# Altium footprint library myComponents.PcbLib: 43 footprints (part 2 of 3)
Each footprint in its own frame and in the unit in brackets; x right, y up, seen from the top. Pads: shape width x height; smd on the part's side, far side on the other; paste and mask are expansions set on the pad; w line width, h text height; cw(c..) or ccw(c..) is an arc to the next point about the centre after c.
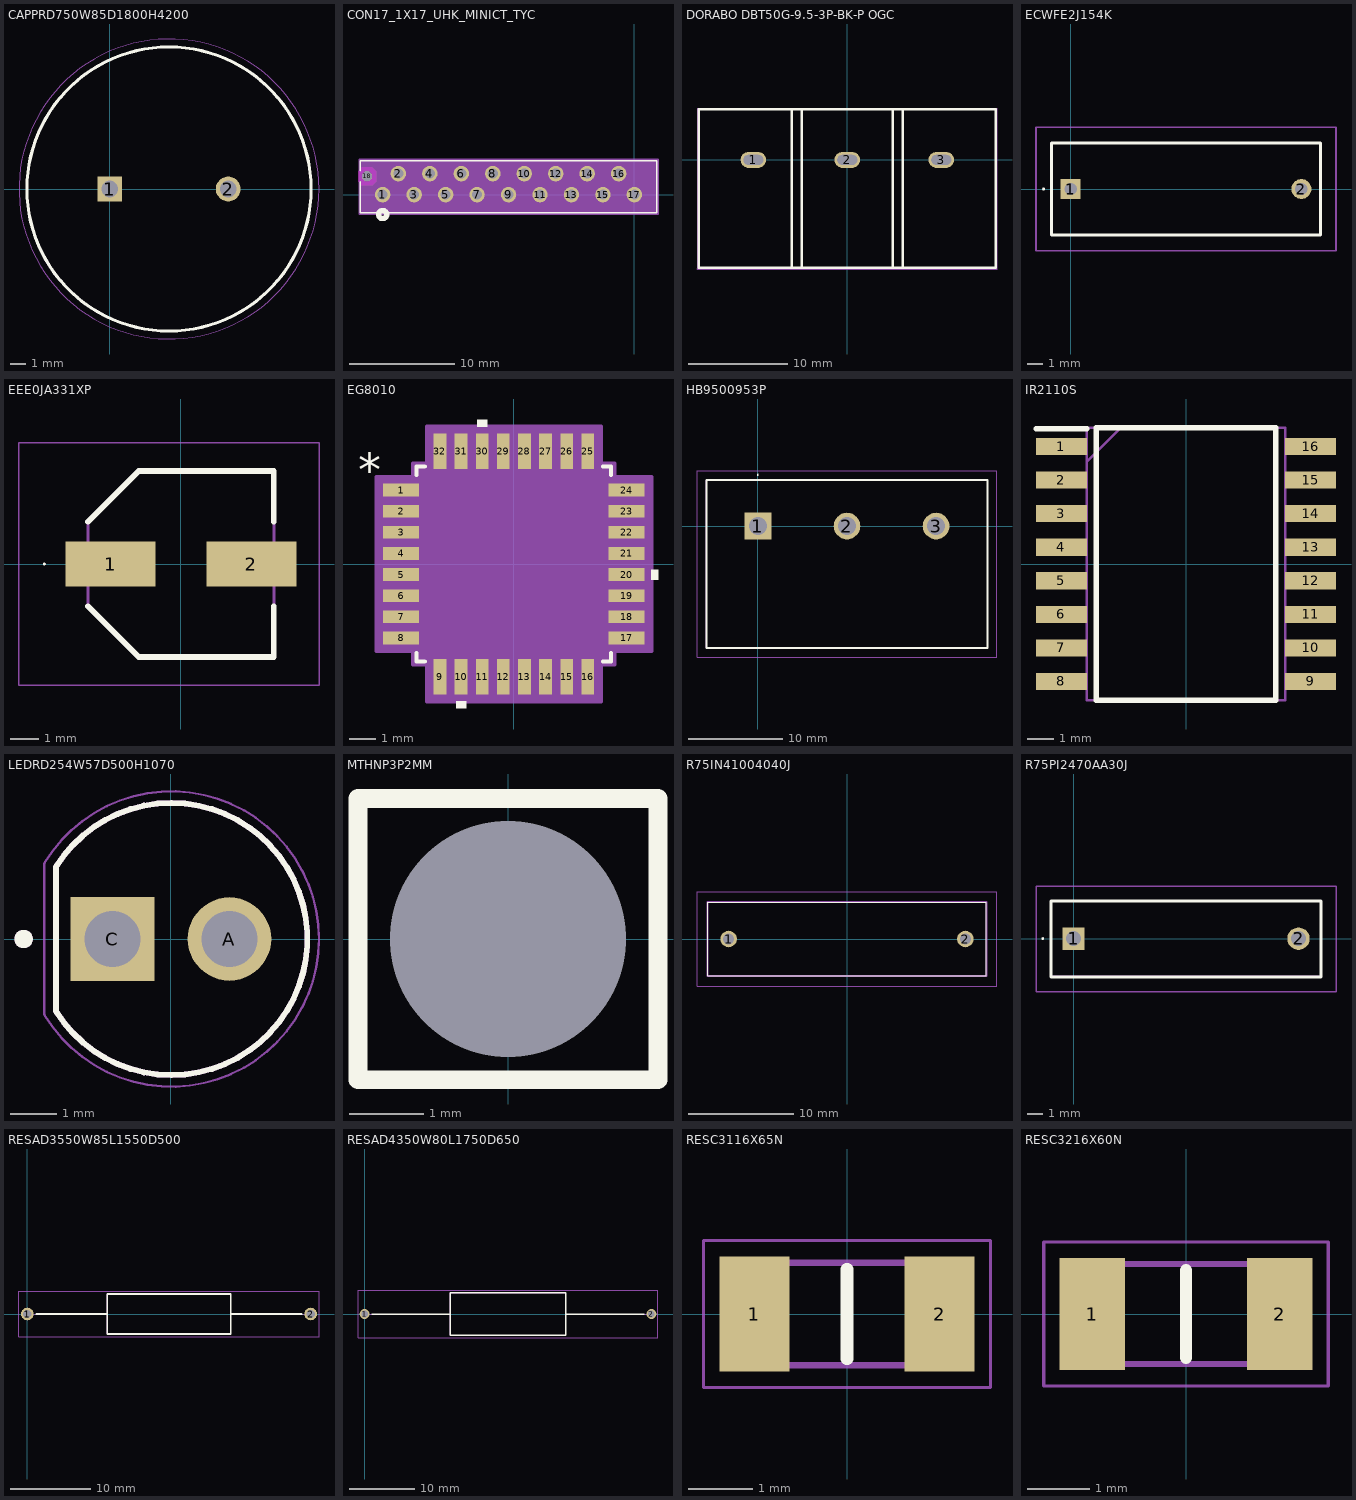
[diagram p1: the footprints below, top view; thin cyan lines are the x and y axes]

## CAPPRD750W85D1800H4200 [mm]
pads (2):
  rect 1.575x1.575 hole 1.05: 1(0,0)
  round 1.575 hole 1.05: 2(7.5,0)
Top Overlay:
  circle w0.2: c3.75,0 r9
Mechanical 13:
  circle w0.1: c3.75,0 r9
Mechanical 15:
  circle w0.05: c3.75,0 r9.5
3D body "EEU-FC1V392.stp": height 42, standoff -10, extent -5.479,-9.245 13,9.245

## CON17_1X17_UHK_MINICT_TYC [mil]
pads (18):
  round 58 hole 38 paste-99999 mask-29: 1(-944.88,0) 2(-885.83,78.74) 3(-826.77,0) 4(-767.72,78.74) 5(-708.66,0) 6(-649.61,78.74) 7(-590.55,0) 8(-531.5,78.74) 9(-472.44,0) 10(-413.39,78.74) 11(-354.33,0) 12(-295.28,78.74) 13(-236.22,0) 14(-177.17,78.74) 15(-118.11,0) 16(-59.06,78.74) 17(0,0)
  round 38 hole 38 unplated paste-99999 mask+0: 18(-1003.44,69)
Top Overlay:
  circle w20: c-944.88,-75 r15
  lines w6: -1028.44,48.87 -1028.44,-68 83.56,-68 83.56,127 -1028.44,127 -1028.44,89.13
  text ".Designator" at -609.94,-25 h50
Bottom Overlay:
  circle w20: c-944.88,-75 r15
Keep-Out Layer:
  region: -1022.44,35 -1037.44,50 -1037.44,88 -1022.44,103 -984.44,103 -969.44,88 -969.44,50 -984.44,35
Mechanical 13:
  circle w1: c-944.88,10 r7
  lines w1: -1023.44,-63 78.56,-63 78.56,122 -1023.44,122 -1023.44,-63
  text ".Designator" at -609.94,-25 h50
Mechanical 15:
  region: 88.56,132 -1033.44,132 -1033.44,-73 88.56,-73
  lines w6: -1033.44,-73 -1033.44,132 88.56,132 88.56,-73 -1033.44,-73

## DORABO DBT50G-9.5-3P-BK-P OGC [mm]
pads (3):
  oval 2.6x1.6 hole 1 slot 2 at 0 deg: 1(-9.5,0) 2(0,0) 3(9.5,0)
Top Overlay:
  lines w0.254: -15.01,-10.9 -15,5.1 15,5.1 15,-10.9 -15,-10.9 ; -5.633,-10.9 -5.633,5.1 ; -4.598,-10.9 -4.598,5.1 ; 4.572,-10.92 4.572,5.08 ; 5.607,-10.92 5.607,5.08
Mechanical 15:
  region: 9,0.4 10,0.4 10,-0.4 9,-0.4
  region: -0.5,0.4 0.5,0.4 0.5,-0.4 -0.5,-0.4
  region: -10,0.4 -9,0.4 -9,-0.4 -10,-0.4
  region: -15.077,-11.047 -15.077,-11.072 -15.112,-11.107 -15.162,-11.107 -15.197,-11.072 -15.197,-11.047 -15.197,-11.022 -15.162,-10.987 -15.112,-10.987 -15.077,-11.022
  lines w0.051: -15.137,-11.047 -15.137,5.227 15.127,5.227 15.127,-11.047 -15.137,-11.047

## ECWFE2J154K [mm]
pads (2):
  rect 1.3x1.3 hole 0.8: 1(0,0)
  round 1.3 hole 0.8: 2(15,0)
Top Overlay:
  lines w0.1: -1.8,0 cw(c-1.75,0) -1.7,0 cw(c-1.75,0) -1.8,0
  lines w0.2: -1.25,-3 -1.25,3 16.25,3 16.25,-3 -1.25,-3
Mechanical 13:
  lines w0.1: -1.25,-3 -1.25,3 16.25,3 16.25,-3 -1.25,-3
Mechanical 15:
  lines w0.1: -2.25,-4 -2.25,4 17.25,4 17.25,-4 -2.25,-4
3D body "ECW-FE2J154K.stp": height 12.1, standoff -5, extent -1.25,-3 16.25,3

## EEE0JA331XP [mm]
pads (2):
  rect 3.2x1.6 smd: 1(-2.5,0) 2(2.5,0)
Top Overlay:
  lines w0.05: -4.875,0 ccw(c-4.85,0) -4.825,0 ccw(c-4.85,0) -4.875,0
  lines w0.2: -3.3,-1.5 -1.5,-3.3 3.3,-3.3 3.3,-1.5 ; -3.3,1.5 -1.5,3.3 3.3,3.3 3.3,1.5
Mechanical 13:
  lines w0.1: -3.3,1.5 -1.5,3.3 ; -3.3,1.5 -3.3,-1.5 -1.5,-3.3 3.3,-3.3 3.3,3.3 -1.5,3.3 ; -3.3,1.5 -1.5,3.3
Mechanical 15:
  lines w0.05: -5.75,-4.3 4.9,-4.3 4.9,4.3 -5.75,4.3 -5.75,-4.3
3D body "EEE-1VA101XP.stp": height 7.7, standoff 0, extent -3.65,-3.3 3.65,3.3

## EG8010 [mm]
pads (32):
  rect 1.36x0.482 smd paste+0 mask+0: 1(-4.267,2.8) 2(-4.267,2) 3(-4.267,1.2) 4(-4.267,0.4) 5(-4.267,-0.4) 6(-4.267,-1.2) 7(-4.267,-2) 8(-4.267,-2.8) 17(4.267,-2.8) 18(4.267,-2) 19(4.267,-1.2) 20(4.267,-0.4) 21(4.267,0.4) 22(4.267,1.2) 23(4.267,2) 24(4.267,2.8)
  rect 0.482x1.36 smd paste+0 mask+0: 9(-2.8,-4.267) 10(-2,-4.267) 11(-1.2,-4.267) 12(-0.4,-4.267) 13(0.4,-4.267) 14(1.2,-4.267) 15(2,-4.267) 16(2.8,-4.267) 25(2.8,4.267) 26(2,4.267) 27(1.2,4.267) 28(0.4,4.267) 29(-0.4,4.267) 30(-1.2,4.267) 31(-2,4.267) 32(-2.8,4.267)
Top Overlay:
  region: -1.81,-5.201 -2.191,-5.201 -2.191,-5.455 -1.81,-5.455
  region: 5.201,-0.209 5.455,-0.209 5.455,-0.59 5.201,-0.59
  region: -1.01,5.201 -1.391,5.201 -1.391,5.455 -1.01,5.455
  lines w0.152: -3.683,-3.374 -3.683,-3.683 -3.374,-3.683 ; -3.683,3.374 -3.683,3.683 -3.374,3.683 ; 3.374,-3.683 3.683,-3.683 3.683,-3.374 ; 3.374,3.683 3.683,3.683 3.683,3.374
  text "*" at -5.9,2.946 h1.27
  text ".Designator" at -3.492,-0.635 h1.27
Mechanical 13:
  lines w0.025: -3.556,2.286 -2.286,3.556 ; -4.597,-3.016 -4.597,-2.584 -3.556,-2.584 -3.556,-3.016 -4.597,-3.016 ; -4.597,-2.216 -4.597,-1.784 -3.556,-1.784 -3.556,-2.216 -4.597,-2.216 ; -4.597,-1.416 -4.597,-0.984 -3.556,-0.984 -3.556,-1.416 -4.597,-1.416 ; -4.597,-0.616 -4.597,-0.184 -3.556,-0.184 -3.556,-0.616 -4.597,-0.616 ; -4.597,0.184 -4.597,0.616 -3.556,0.616 -3.556,0.184 -4.597,0.184 ; -4.597,0.984 -4.597,1.416 -3.556,1.416 -3.556,0.984 -4.597,0.984 ; -4.597,1.784 -4.597,2.216 -3.556,2.216 -3.556,1.784 -4.597,1.784 ; -4.597,2.584 -4.597,3.016 -3.556,3.016 -3.556,2.584 -4.597,2.584 ; -3.556,-3.556 -3.556,3.556 3.556,3.556 3.556,-3.556 -3.556,-3.556 ; -3.016,-4.597 -3.016,-3.556 -2.584,-3.556 -2.584,-4.597 -3.016,-4.597 ; -3.016,3.556 -2.584,3.556 -2.584,4.597 -3.016,4.597 -3.016,3.556 ; -2.216,-4.597 -2.216,-3.556 -1.784,-3.556 -1.784,-4.597 -2.216,-4.597 ; -2.216,3.556 -1.784,3.556 -1.784,4.597 -2.216,4.597 -2.216,3.556 ; -1.416,-4.597 -1.416,-3.556 -0.984,-3.556 -0.984,-4.597 -1.416,-4.597 ; -1.416,3.556 -0.984,3.556 -0.984,4.597 -1.416,4.597 -1.416,3.556 ; -0.616,-4.597 -0.616,-3.556 -0.184,-3.556 -0.184,-4.597 -0.616,-4.597 ; -0.616,3.556 -0.184,3.556 -0.184,4.597 -0.616,4.597 -0.616,3.556 ; 0.184,-4.597 0.184,-3.556 0.616,-3.556 0.616,-4.597 0.184,-4.597 ; 0.184,3.556 0.616,3.556 0.616,4.597 0.184,4.597 0.184,3.556 ; 0.984,-4.597 0.984,-3.556 1.416,-3.556 1.416,-4.597 0.984,-4.597 ; 0.984,3.556 1.416,3.556 1.416,4.597 0.984,4.597 0.984,3.556 ; 1.784,-4.597 1.784,-3.556 2.216,-3.556 2.216,-4.597 1.784,-4.597 ; 1.784,3.556 2.216,3.556 2.216,4.597 1.784,4.597 1.784,3.556 ; 2.584,-4.597 2.584,-3.556 3.016,-3.556 3.016,-4.597 2.584,-4.597 ; 2.584,3.556 3.016,3.556 3.016,4.597 2.584,4.597 2.584,3.556 ; 3.556,-3.016 3.556,-2.584 4.597,-2.584 4.597,-3.016 3.556,-3.016 ; 3.556,-2.216 3.556,-1.784 4.597,-1.784 4.597,-2.216 3.556,-2.216 ; 3.556,-1.416 3.556,-0.984 4.597,-0.984 4.597,-1.416 3.556,-1.416 ; 3.556,-0.616 3.556,-0.184 4.597,-0.184 4.597,-0.616 3.556,-0.616 ; 3.556,0.184 3.556,0.616 4.597,0.616 4.597,0.184 3.556,0.184 ; 3.556,0.984 3.556,1.416 4.597,1.416 4.597,0.984 3.556,0.984 ; 3.556,1.784 3.556,2.216 4.597,2.216 4.597,1.784 3.556,1.784 ; 3.556,2.584 3.556,3.016 4.597,3.016 4.597,2.584 3.556,2.584
  text ".Designator" at -3.492,-0.635 h1.27
  text "*" at -3.492,2.565 h1.27
Mechanical 15:
  region: -3.295,-3.81 -3.81,-3.81 -3.81,-3.295 -5.201,-3.295 -5.201,3.295 -3.81,3.295 -3.81,3.81 -3.295,3.81 -3.295,5.201 3.295,5.201 3.295,3.81 3.81,3.81 3.81,3.295 5.201,3.295 5.201,-3.295 3.81,-3.295 3.81,-3.81 3.295,-3.81 3.295,-5.201 -3.295,-5.201
  lines w0.152: -5.201,-3.295 -3.81,-3.295 -3.81,-3.81 -3.295,-3.81 -3.295,-5.201 3.295,-5.201 3.295,-3.81 3.81,-3.81 3.81,-3.295 5.201,-3.295 5.201,3.295 3.81,3.295 3.81,3.81 3.295,3.81 3.295,5.201 -3.295,5.201 -3.295,3.81 -3.81,3.81 -3.81,3.295 -5.201,3.295 -5.201,-3.295
3D body "LQFP32_EGM.step": height 1.6, standoff 0, extent -4.597,-4.597 4.597,4.597

## HB9500953P [mm]
pads (3):
  rect 2.85x2.85 hole 1.9: 1(0,0)
  round 2.85 hole 1.9: 2(9.5,0) 3(19,0)
Top Overlay:
  lines w0.1: 0,5.4 cw(c0,5.45) 0,5.5 cw(c0,5.45) 0,5.4
  lines w0.2: -5.5,-13 -5.5,4.9 24.5,4.9 24.5,-13 -5.5,-13
Mechanical 13:
  lines w0.1: -5.5,-13 -5.5,4.9 24.5,4.9 24.5,-13 -5.5,-13
Mechanical 15:
  lines w0.1: -6.5,-14 -6.5,5.9 25.5,5.9 25.5,-14 -6.5,-14
3D body "HB9500-9.5-3P.stp": height 15, standoff -5, extent -5.5,-13 24.5,4.9

## IR2110S [mm]
pads (16):
  rect 1.925x0.65 smd: 1(-4.712,4.445) 2(-4.712,3.175) 3(-4.712,1.905) 4(-4.712,0.635) 5(-4.712,-0.635) 6(-4.712,-1.905) 7(-4.712,-3.175) 8(-4.712,-4.445) 9(4.712,-4.445) 10(4.712,-3.175) 11(4.712,-1.905) 12(4.712,-0.635) 13(4.712,0.635) 14(4.712,1.905) 15(4.712,3.175) 16(4.712,4.445)
Top Overlay:
  lines w0.2: -5.675,5.12 -3.75,5.12 ; -3.4,-5.15 -3.4,5.15 3.4,5.15 3.4,-5.15 -3.4,-5.15
Mechanical 15:
  lines w0.1: -3.75,3.88 -2.48,5.15 ; -3.75,-5.15 -3.75,5.15 3.75,5.15 3.75,-5.15 -3.75,-5.15

## LEDRD254W57D500H1070 [mm]
height 10.7
pads (2):
  round 1.815 hole 1.21: A(1.27,0)
  rect 1.815x1.815 / inner round 1.815 / far side rect 1.815x1.815 hole 1.21: C(-1.27,0)
Top Overlay:
  circle w0.2: c-3.2,0 r0.1
  lines w0.127: -2.5,-1.566 ccw(c0.006,0) -2.5,1.566 -2.5,-1.566
Mechanical 13:
  circle w0.2: c-3.2,0 r0.1
  lines w0.127: -2.5,-1.566 ccw(c0.006,0) -2.5,1.566 -2.5,-1.566
Mechanical 15:
  lines w0.05: -2.75,-1.64 -2.75,1.64 ; -2.743,-1.652 ccw(c0.007,0) -2.743,1.652
3D body "step_temp.STEP": height 9.1, standoff -17.8, extent -2.6,-2.95 2.95,2.95

## MTHNP3P2MM [mm] "mountinh hole non plated 3.2mm"
pads (1):
  round 1 hole 3.2: ""(0,0)
Top Overlay:
  lines w0.254: -2.032,-1.905 -2.032,0.254 -2.032,1.905 2.032,1.905 2.032,-1.905 -2.032,-1.905

## R75IN41004040J [mm]
pads (2):
  round 1.575 hole 1.05: 1(-11.25,0) 2(11.25,0)
Top Overlay:
  lines w0.1: -13.25,-3.5 13.25,-3.5 13.25,3.5 -13.25,3.5 -13.25,-3.5
Mechanical 13:
  lines w0.2: -13.25,-3.5 13.25,-3.5 13.25,3.5 -13.25,3.5 -13.25,-3.5
Mechanical 15:
  lines w0.1: -14.25,-4.5 14.25,-4.5 14.25,4.5 -14.25,4.5 -14.25,-4.5
3D body "R75IN41004040J.stp": height 16.1, standoff -35, extent -13.4,-3.605 13.4,3.6

## R75PI2470AA30J [mm]
pads (2):
  rect 1.5x1.5 hole 1: 1(0,0)
  round 1.5 hole 1: 2(15,0)
Top Overlay:
  lines w0.1: -2.1,0 cw(c-2.05,0) -2,0 cw(c-2.05,0) -2.1,0
  lines w0.2: -1.5,-2.54 -1.5,2.5 16.5,2.5 16.5,-2.54 -1.5,-2.54
Mechanical 13:
  lines w0.1: -1.5,-2.5 -1.5,2.5 16.5,2.5 16.5,-2.5 -1.5,-2.5
Mechanical 15:
  lines w0.1: -2.5,-3.54 -2.5,3.5 17.5,3.5 17.5,-3.54 -2.5,-3.54
3D body "R75PI2470AA30J.stp": height 5.21, standoff 0, extent 0,-6 18.3,11.1

## RESAD3550W85L1550D500 [mm]
pads (2):
  round 1.575 hole 1.05: 1(0,0) 2(35.5,0)
Top Overlay:
  lines w0.2: 1.138,0 10,0 ; 25.5,0 34.362,0 ; 10,-2.5 10,2.5 25.5,2.5 25.5,-2.5 10,-2.5
Mechanical 13:
  lines w0.1: 0,0 10,0 ; 25.5,0 35.5,0 ; 10,-2.5 10,2.5 25.5,2.5 25.5,-2.5 10,-2.5
Mechanical 15:
  lines w0.05: -1.038,-2.85 -1.038,2.85 36.537,2.85 36.537,-2.85 -1.038,-2.85
3D body "RSF200JB-73-2K7.stp": height 5.49, standoff -5.5, extent -0.425,-2.747 35.925,2.747

## RESAD4350W80L1750D650 [mm]
pads (2):
  round 1.5 hole 1: 1(0,0) 2(43.5,0)
Top Overlay:
  lines w0.2: 1.1,0 13,0 ; 30.5,0 42.4,0 ; 13,-3.25 13,3.25 30.5,3.25 30.5,-3.25 13,-3.25
Mechanical 13:
  lines w0.1: 0,0 13,0 ; 30.5,0 43.5,0 ; 13,-3.25 13,3.25 30.5,3.25 30.5,-3.25 13,-3.25
Mechanical 15:
  lines w0.05: -1,-3.6 -1,3.6 44.5,3.6 44.5,-3.6 -1,-3.6
3D body "ROX5SSJ1K0.stp": height 6.5, standoff -6.5, extent -0.4,-3.25 43.9,3.25

## RESC3116X65N [mm]
pads (2):
  rect 1.1x1.8 smd: 1(-1.45,0) 2(1.45,0)
Top Overlay:
  lines w0.2: 0,-0.7 0,0.7
Mechanical 13:
  lines w0.1: -1.55,-0.8 -1.55,0.8 1.55,0.8 1.55,-0.8 -1.55,-0.8
Mechanical 15:
  lines w0.05: -2.25,-1.15 -2.25,1.15 2.25,1.15 2.25,-1.15 -2.25,-1.15
3D body "CRCW120612R0FKEAHP.stp": height 0.65, standoff 0, extent -1.55,-0.8 1.55,0.8

## RESC3216X60N [mm]
pads (2):
  rect 1.05x1.8 smd: 1(-1.5,0) 2(1.5,0)
Top Overlay:
  lines w0.2: 0,-0.7 0,0.7
Mechanical 13:
  lines w0.1: -1.575,-0.8 -1.575,0.8 1.575,0.8 1.575,-0.8 -1.575,-0.8
Mechanical 15:
  lines w0.05: -2.275,-1.15 -2.275,1.15 2.275,1.15 2.275,-1.15 -2.275,-1.15
3D body "CRCW12061K50FKEA.stp": height 0.55, standoff 0, extent -1.42,-0.74 1.78,0.86